# Altium footprint library 5015680907.PcbLib: 1 footprints
Each footprint in its own frame and in the unit in brackets; x right, y up, seen from the top. Pads: shape width x height; smd on the part's side, far side on the other; paste and mask are expansions set on the pad; w line width, h text height; cw(c..) or ccw(c..) is an arc to the next point about the centre after c.
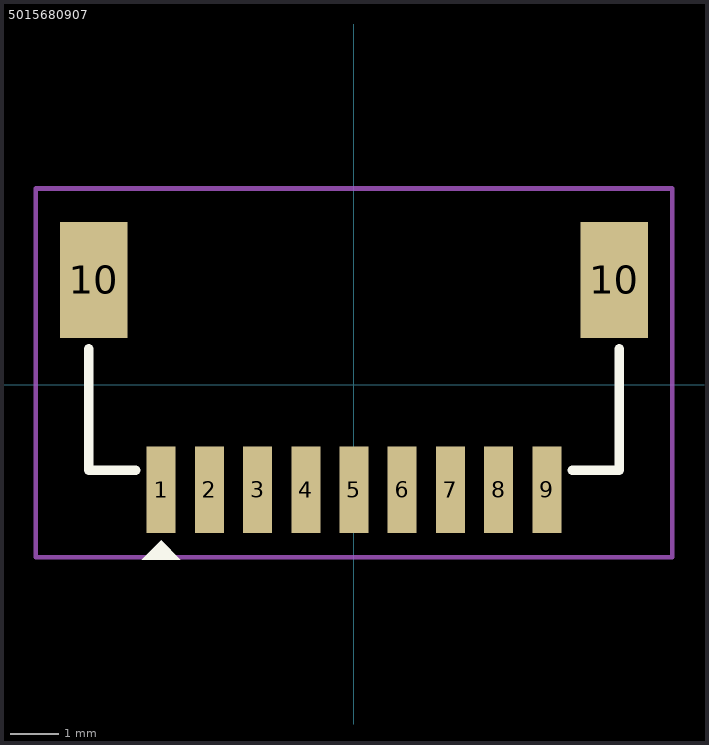
[diagram p0: the footprint, top view; thin cyan lines are the x and y axes]

## 5015680907 [mm]
pads (11):
  rect 0.6x1.8 smd: 1(-4,-2.175) 2(-3,-2.175) 3(-2,-2.175) 4(-1,-2.175) 5(0,-2.175) 6(1,-2.175) 7(2,-2.175) 8(3,-2.175) 9(4,-2.175)
  rect 1.4x2.4 smd: 10(-5.4,2.175) 10(5.4,2.175)
Top Overlay:
  region: -3.6,-3.625 -4.4,-3.625 -4,-3.225
  lines w0.2: -5.5,0.75 -5.5,-1.775 -4.525,-1.775 ; 4.525,-1.775 5.5,-1.775 5.5,0.75
Top Courtyard:
  lines w0.1: -6.6,2.725 -6.6,4.075 ; -5.45,4.075 -6.6,4.075 ; -3.2,-3.575 -6.6,-3.575 ; 4.25,-3.575 6.6,-3.575 ; 5.5,4.075 6.6,4.075 ; 6.6,3.325 6.6,4.075 ; -6.6,-3.575 6.6,-3.575 ; -6.6,-3.575 -6.6,4.075 ; -6.6,4.075 6.6,4.075 ; 6.6,-3.575 6.6,4.075
3D body "5015680907.stp": height 4.7, standoff 0, extent -5.5,-2.325 5.5,3.575